# Altium schematic symbol library Chip.SchLib: 16 symbols
Pins are listed as number, name and electrical type; pins without a type are passive.

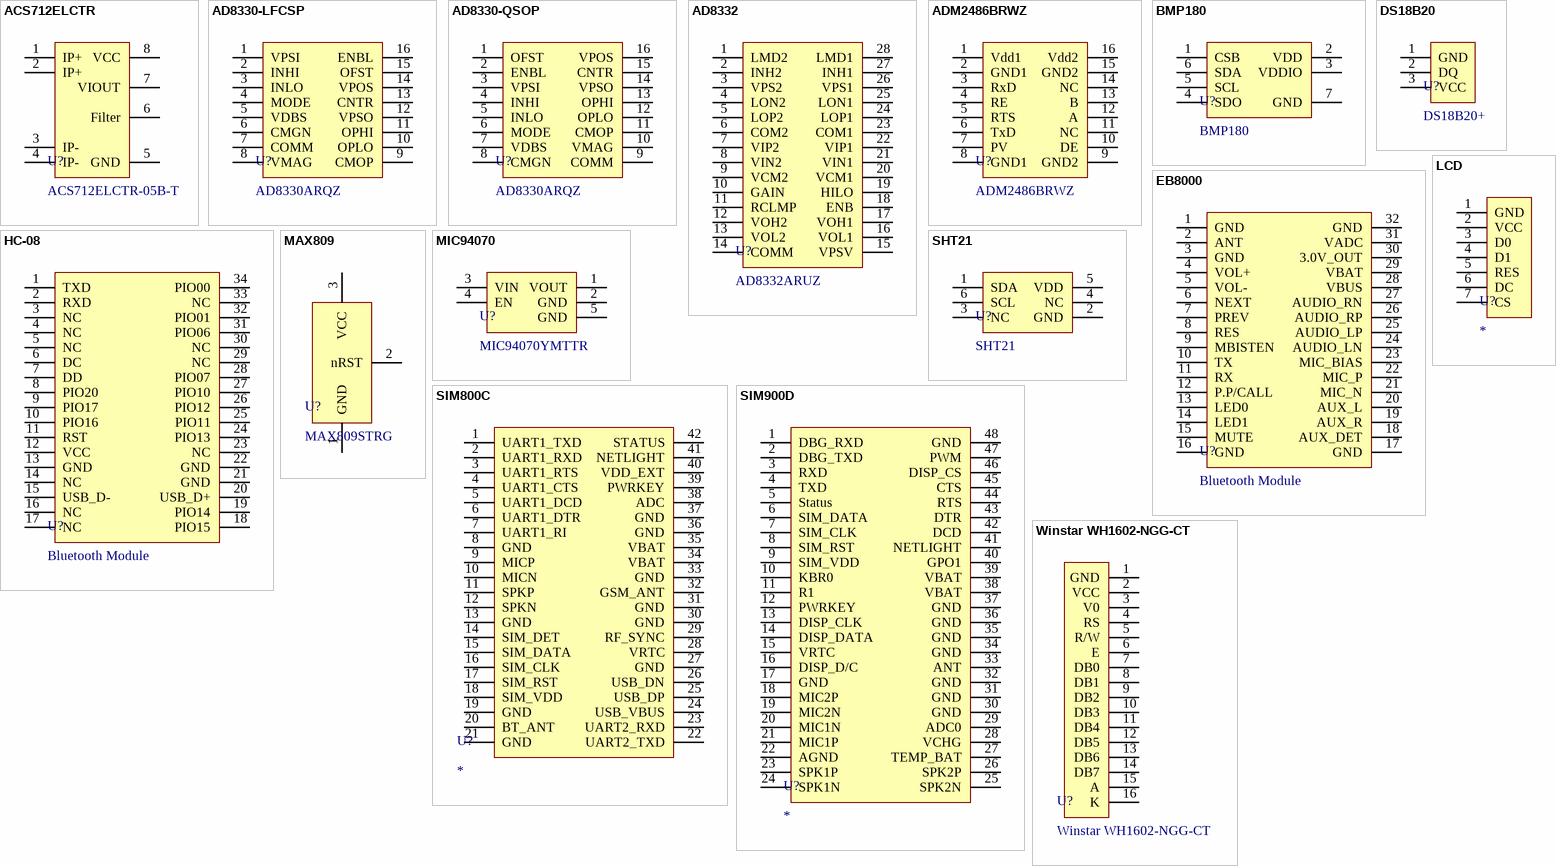
[diagram p0: symbols ACS712ELCTR to Winstar WH1602-NGG-CT]

## ACS712ELCTR
designator U?, comment ACS712ELCTR-05B-T
SENSOR CURRENT HALL 5A AC/DC; Manufacturer: Allegro MicroSystems, LLC; Sensor Type: Hall Effect, Open Loop; Voltage - Supply: 5V; Current - Supply (Max): 13mA; Response Time: 5µs; Accuracy: ±1.5%; Frequency: DC ~ 80kHz; Sensitivity: 185mV/A; For Measuring: AC/DC; Package / Case: 8-SOIC (0.154", 3.90mm Width); Operating Temperature: -40°C ~ 85°C; Linearity: ±1.5%; Category: Sensors, Transducers; Manufacturer Part Number: ACS712ELCTR-05B-T; ComponentLink1URL: http://www.farnell.com/datasheets/1759100.pdf; ComponentLink1Description: Datasheet
footprint SO-8 (SOIC, 8-Leads, Body 5,0x4,2mm (max), Pitch 1,27mm, IPC Medium Density)
pins: 1 IP+, 2 IP+, 3 IP-, 4 IP-, 5 GND, 6 Filter, 7 VIOUT, 8 VCC

## AD8330-LFCSP
designator U?, comment AD8330ARQZ
Programmable/Variable Amplifier; Gain Bandwidth Product: 150MHz; Power Dissipation: 620mW; Max Input Voltage: 6V; Settling Time: 250ns; Nominal Supply Current: 20mA; Common Mode Rejection Ratio: 55dB; Min Supply Voltage: 2.7V; Gain: 50dB; Height: 1.65mm; Max Supply Voltage: 6V; Max Operating Temperature: 85°C; Min Operating Temperature: -40°C; Manufacturer Part Number: AD8330ARQZ; -3db Bandwidth: 150MHz; Operating Supply Current: 20mA; Bandwidth: 150MHz; Min Input Voltage: 2.7V; Case/Package: QSOP; Supplier Part Number: AD8330ARQZ-ND
footprint QFN50P300X300X75_HS-17N (QFN, 16-Leads, Body 3,00x3,00mm, Pitch 0,50mm, Thermal Pad 1,55x1,55mm, IPC Medium Density)
pins: 1 VPSI, 2 INHI, 3 INLO, 4 MODE, 5 VDBS, 6 CMGN, 7 COMM, 8 VMAG, 9 CMOP, 10 OPLO, 11 OPHI, 12 VPSO, 13 CNTR, 14 VPOS, 15 OFST, 16 ENBL

## AD8330-QSOP
designator U?, comment AD8330ARQZ
Programmable/Variable Amplifier; Gain Bandwidth Product: 150MHz; Power Dissipation: 620mW; Max Input Voltage: 6V; Settling Time: 250ns; Nominal Supply Current: 20mA; Common Mode Rejection Ratio: 55dB; Min Supply Voltage: 2.7V; Gain: 50dB; Height: 1.65mm; Max Supply Voltage: 6V; Max Operating Temperature: 85°C; Min Operating Temperature: -40°C; Manufacturer Part Number: AD8330ARQZ; -3db Bandwidth: 150MHz; Operating Supply Current: 20mA; Bandwidth: 150MHz; Min Input Voltage: 2.7V; Case/Package: QSOP; Supplier Part Number: AD8330ARQZ-ND
footprint QSOP-16
pins: 1 OFST, 2 ENBL, 3 VPSI, 4 INHI, 5 INLO, 6 MODE, 7 VDBS, 8 CMGN, 9 COMM, 10 VMAG, 11 CMOP, 12 OPLO, 13 OPHI, 14 VPSO, 15 CNTR, 16 VPOS

## AD8332
designator U?, comment AD8332ARUZ
Slew Rate: 650V/µs; Max Power Dissipation: 960mW; Gain Bandwidth Product: 100MHz; Voltage Gain: 19dB; Min Supply Voltage: 4.5V; Power Supply Rejection Ratio (PSRR): 68dB; Max Supply Voltage: 5.5V; Max Operating Temperature: 85°C; Bandwidth: 100MHz; Min Operating Temperature: -40°C; Length: 9.7mm; Case/Package: TSSOP; Manufacturer Part Number: AD8332ARUZ
footprint TSOP65P640X120-28N (TSOP, 28-Leads, Body 9,70x4,40mm, Pitch 0,65mm, IPC Medium Density)
pins: 1 LMD2, 2 INH2, 3 VPS2, 4 LON2, 5 LOP2, 6 COM2, 7 VIP2, 8 VIN2, 9 VCM2, 10 GAIN, 11 RCLMP, 12 VOH2, 13 VOL2, 14 COMM, 15 VPSV, 16 VOL1, 17 VOH1, 18 ENB, 19 HILO, 20 VCM1, 21 VIN1, 22 VIP1, 23 COM1, 24 LOP1, 25 LON1, 26 VPS1, 27 INH1, 28 LMD1

## ADM2486BRWZ
designator U?
ADM2486BRWZ   RS485 Transceiver, 2.7V-5.5V Supply, SOIC-16; Manufacturer: Analog Devices; Max Dual Supply Voltage: 5.5V; Interface: RS-422,RS-485; Description: U?; Dual Supply Voltage: 5V; Min Supply Voltage: 2.7V; Nominal Supply Current: 3mA; Min Dual Supply Voltage: 4.75V; Isolation Voltage: 2.5kV; Manufacturer Part Number: ADM2486BRWZ; Length: 10.5mm; Number of Pins: 16; Max Operating Temperature: 85°C; Width: 7.6mm; Min Operating Temperature: -40°C; Max Supply Voltage: 5.5V; Height: 2.35mm; Max Output Current: 3mA
footprint SOIC-16 (SOIC, 16-Leads, Body 10,5x7,5mm (max), Pitch 1,27mm, IPC Medium Density)
pins: 1 Vdd1, 2 GND1, 3 RxD, 4 RE, 5 RTS, 6 TxD, 7 PV, 8 GND1, 9 GND2, 10 DE, 11 NC, 12 A, 13 B, 14 NC, 15 GND2, 16 Vdd2

## BMP180
designator U?
Board Mount Pressure Sensors Digital Barometer 12uA, 300-1200hPa; Manufacturer: Bosch; Operating Pressure: 300 hPa to 1100 hPa; Pressure Type: Absolute; Resolution: 16 bit; Brand: Bosch Sensortec; Interface Type: I2C; Operating Supply Current: 32 uA; Operating Supply Voltage: 1.62 V to 3.6 V; Manufacturer Part Number: BMP180; Package / Case: LGA-7; Mounting Style: SMD/SMT; Maximum Operating Temperature: + 85 C; Minimum Operating Temperature: -  40 C; ComponentLink1URL: http://www.mouser.com/ds/2/783/BST-BMP180-DS000-12~1-786481.pdf; ComponentLink1Description: http://www.mouser.com/ds/2/783/BST-BMP180-DS000-12~1-786481.pdf
footprint BMP180
pins: 1 CSB, 2 VDD, 3 VDDIO, 4 SDO, 5 SCL, 6 SDA, 7 GND

## DS18B20
designator U?, comment DS18B20+
MAXIM INTEGRATED PRODUCTS         DS18B20+.             12bit,  0.5C 1 Wire Digital Thermometer with Programmable Resolution in TO-92-3 Package; Output Type: Voltage,Digital; Min Supply Voltage: 3V; Number of Bits: 12; Nominal Supply Current: 1mA; Operating Supply Current: 1.5mA; Output Current: 4mA; Resolution: 12b; Max Supply Voltage: 5.5V; Height: 4.95mm; Min Supply Voltage (DC): 3V; Package Quantity: 10; Case/Package: TO-92; Number of Pins: 3; Length: 4.95mm; Max Operating Temperature: 125°C; Min Operating Temperature: -55°C; Manufacturer Part Number: DS18B20+; Max Supply Voltage (DC): 5.5V; Termination: SMD/SMT; Supplier Part Number: DS18B20+-ND
footprint TO-92_1.25mm
pins: 1 GND, 2 DQ, 3 VCC

## EB8000
designator U?, comment Bluetooth Module
Bluetooth Audio&SPP Module BT_v2.1
footprint EB8000
pins: 1 GND, 2 ANT, 3 GND, 4 VOL+, 5 VOL-, 6 NEXT, 7 PREV, 8 RES, 9 MBISTEN, 10 TX, 11 RX, 12 P.P/CALL, 13 LED0, 14 LED1, 15 MUTE, 16 GND, 17 GND, 18 AUX_DET, 19 AUX_R, 20 AUX_L, 21 MIC_N, 22 MIC_P, 23 MIC_BIAS, 24 AUDIO_LN, 25 AUDIO_LP, 26 AUDIO_RP, 27 AUDIO_RN, 28 VBUS, 29 VBAT, 30 3.0V_OUT, 31 VADC, 32 GND

## HC-08
designator U?, comment Bluetooth Module
Bluetooth Audio&SPP Module BT_v2.1
footprint HC-08
pins: 1 TXD, 2 RXD, 3 NC, 4 NC, 5 NC, 6 DC, 7 DD, 8 PIO20, 9 PIO17, 10 PIO16, 11 RST, 12 VCC, 13 GND, 14 NC, 15 USB_D-, 16 NC, 17 NC, 18 PIO15, 19 PIO14, 20 USB_D+, 21 GND, 22 GND, 23 NC, 24 PIO13, 25 PIO11, 26 PIO12, 27 PIO10, 28 PIO07, 29 NC, 30 NC, 31 PIO06, 32 PIO01, 33 NC, 34 PIO00

## LCD
designator U?
footprint LCD 27x27
pins: 1 GND, 2 VCC, 3 D0, 4 D1, 5 RES, 6 DC, 7 CS

## MAX809
designator U?, comment MAX809STRG
IC MPU SUPERVISORY 2.93V SOT23; Manufacturer: ON Semiconductor; Output: Push-Pull, Totem Pole; Reset Timeout: 140 ms Minimum; Reset: Active Low; Part Status: Active; Manufacturer Part Number: MAX809STRG; Voltage - Threshold: 2.93V; Supplier Device Package: SOT-23-3 (TO-236); Operating Temperature: -40°C ~ 105°C (TJ); ComponentLink1URL: http://www.onsemi.com/pub_link/Collateral/MAX809S-D.PDF; ComponentLink1Description: http://www.onsemi.com/pub_link/Collateral/MAX809S-D.PDF
footprint SOT-23_max809 (SOT23, 3-Leads, Body 3,0x2,6mm (max), Pitch 0,95mm, IPC Medium Density)
pins: 1 GND, 2 nRST, 3 VCC

## MIC94070
designator U?, comment MIC94070YMTTR
IC POWER SWITCH HI SIDE 4-TMLF; Manufacturer: Microchip Micrel; Interface: On/Off; Output Current: 1.2A; Number of Outputs: 1; Number of Pins: 4; Min Operating Temperature: -40°C; Manufacturer Part Number: MIC94070YMTTR; Max Operating Temperature: 125°C; Max Output Current: 1.2A
footprint SON50P160X50_HS-5N (SON, 4-Leads, Body 1,20x1,60mm, Pitch 0,50mm, Thermal Pad 0,86x0,46mm, IPC Medium Density)
pins: 1 VOUT, 2 GND, 3 VIN, 4 EN, 5 GND

## SHT21
designator U?
HUMIDITY AND TEMPERATURE SENSOR; Sensor Type: Humidity, Temperature; Output Type: I²C; Humidity Range: 0 ~ 100% RH; Accuracy: ±2% RH; Voltage - Supply: 2.1 V ~ 3.6 V; Response Time: 8s; Operating Temperature: -40°C ~ 125°C; Manufacturer Part Number: SHT21; Category: Sensors, Transducers; ComponentLink1URL: http://www.kosmodrom.com.ua/pdf/SHT21.pdf; ComponentLink1Description: Datasheet
footprint SHT21
pins: 1 SDA, 2 GND, 3 NC, 4 NC, 5 VDD, 6 SCL

## SIM800C
designator U?
Manufacturer Part Number: SIM800C; Manufacturer: SIMCOM; Communications modules features: supports of 1.8V and 3.3V SIM cards; Module output power: 1 W (class 1 @ 1800/1900MHz); Interface: Bluetooth 3.0+ EDR; Frequency: 1800MHz; Communications module type: GSM/Bluetooth; Supply voltage: 3.4...4.4V DC; Transfer rate: 85.6kbps; Case: 42-pad SMT; Mounting: SMD; Dimensions: 17.6 x 15.7 x 2.3mm; Operating temperature: -40...85°C; Category: GSM/GPS/GPRS/HSPA/EDGE/LTE Modules; Standard: 2G; Weight: 2.158
footprint SIM800C
pins: 1 UART1_TXD, 2 UART1_RXD, 3 UART1_RTS, 4 UART1_CTS, 5 UART1_DCD, 6 UART1_DTR, 7 UART1_RI, 8 GND, 9 MICP, 10 MICN, 11 SPKP, 12 SPKN, 13 GND, 14 SIM_DET, 15 SIM_DATA, 16 SIM_CLK, 17 SIM_RST, 18 SIM_VDD, 19 GND, 20 BT_ANT, 21 GND, 22 UART2_TXD, 23 UART2_RXD, 24 USB_VBUS, 25 USB_DP, 26 USB_DN, 27 GND, 28 VRTC, 29 RF_SYNC, 30 GND, 31 GND, 32 GSM_ANT, 33 GND, 34 VBAT, 35 VBAT, 36 GND, 37 GND, 38 ADC, 39 PWRKEY, 40 VDD_EXT, 41 NETLIGHT, 42 STATUS

## SIM900D
designator U?
Manufacturer: SIMCOM; Manufacturer Part Number: SIM900D; Communications module type: GSM; Transmission: GPRS; Frequency: 900MHz; Transfer rate: 85.6kbps; Interface: UART; Supply voltage: 3.4...4.5V DC; Module output power: 2W (class 4 @ GSM850/EGSM900); Category: GSM/GPS/GPRS/HSPA/EDGE/LTE Modules; Standard: 2G; Operating temperature: -30...80°C
footprint SIM900D
pins: 1 DBG_RXD, 2 DBG_TXD, 3 RXD, 4 TXD, 5 Status, 6 SIM_DATA, 7 SIM_CLK, 8 SIM_RST, 9 SIM_VDD, 10 KBR0, 11 R1, 12 PWRKEY, 13 DISP_CLK, 14 DISP_DATA, 15 VRTC, 16 DISP_D/C, 17 GND, 18 MIC2P, 19 MIC2N, 20 MIC1N, 21 MIC1P, 22 AGND, 23 SPK1P, 24 SPK1N, 25 SPK2N, 26 SPK2P, 27 TEMP_BAT, 28 VCHG, 29 ADC0, 30 GND, 31 GND, 32 GND, 33 ANT, 34 GND, 35 GND, 36 GND, 37 GND, 38 VBAT, 39 VBAT, 40 GPO1, 41 NETLIGHT, 42 DCD, 43 DTR, 44 RTS, 45 CTS, 46 DISP_CS, 47 PWM, 48 GND

## Winstar WH1602-NGG-CT
designator U?
footprint WH1602A
footprint WH1602B
pins: 1 GND, 2 VCC, 3 V0, 4 RS, 5 R/W, 6 E, 7 DB0, 8 DB1, 9 DB2, 10 DB3, 11 DB4, 12 DB5, 13 DB6, 14 DB7, 15 A, 16 K